# EAGLE library part SN74LVC1G3157DRLR (library SN74LVC1G3157DRLR)
Single-Pole, Double-Throw Analog Switch Source: Datasheet <http://www.ti.com/lit/gpn/sn74lvc1g3157>
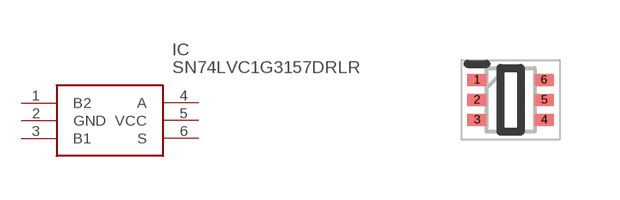
[diagram p0: symbol with the pads of SOTFL50P160X60-6N; footprint SOTFL50P160X60-6N]

Designator prefix IC

## SN74LVC1G3157DRLR (Description: Single-Pole, Double-Throw Analog Switch; Height: 0.6mm; Manufacturer_Name: Texas Instruments; Manufacturer_Part_Number: SN74LVC1G3157DRLR; Mouser_Part_Number: 595-SN74LVC1G3157DRL; Mouser_Price-Stock: https://www.mouser.co.uk/ProductDetail/Texas-Instruments/SN74LVC1G3157DRLR?qs=PVVDbbWpW3LmfSj83Os0NA%3D%3D)  [SOTFL50P160X60-6N]
1  B2
2  GND
3  B1
4  A
5  VCC
6  S

## Footprint SOTFL50P160X60-6N (pad centres in mm)
DRL0006A
smd 0.475 x 0.3: 1 -0.838,0.5; 2 -0.838,0; 3 -0.838,-0.5; 4 0.838,-0.5; 5 0.838,0; 6 0.838,0.5